# Altium footprint library Passives.PcbLib: 57 footprints (part 3 of 4)
Each footprint in its own frame and in the unit in brackets; x right, y up, seen from the top. Pads: shape width x height; smd on the part's side, far side on the other; paste and mask are expansions set on the pad; w line width, h text height; cw(c..) or ccw(c..) is an arc to the next point about the centre after c.
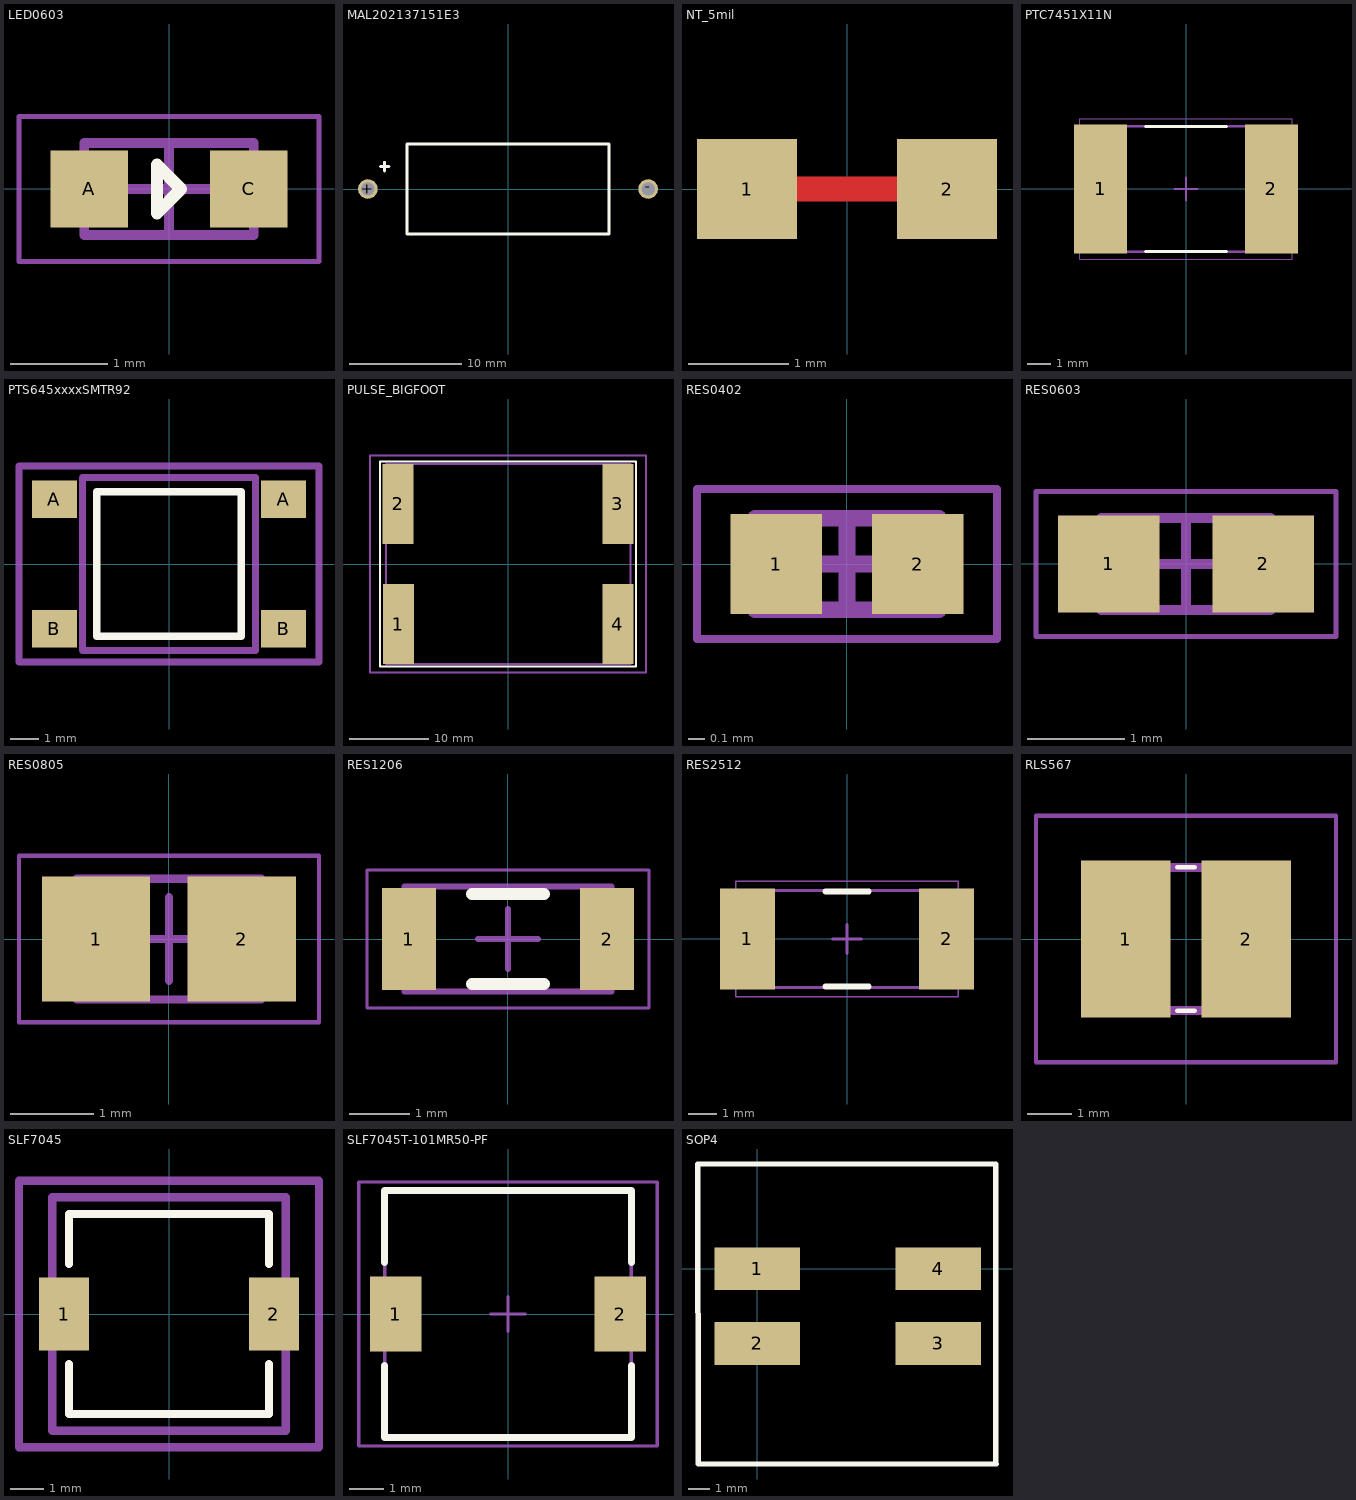
[diagram p2: the footprints below, top view; thin cyan lines are the x and y axes]

## LED0603 [mm] "Chip LED, 2-Leads, Body 1.60x0.80mm, IPC Medium Density"
height 0.8
pads (2):
  rect 0.8x0.8 smd: A(-0.825,0) C(0.825,0)
Top Overlay:
  lines w0.127: -0.125,-0.25 -0.125,0.25 0.125,0 -0.125,-0.25
Mechanical 13:
  lines w0.1: -0.875,-0.475 0.875,-0.475 0.875,0.475 -0.875,0.475 -0.875,-0.475
Mechanical 15:
  lines w0.05: -1.55,-0.75 1.55,-0.75 1.55,0.75 -1.55,0.75 -1.55,-0.75
  lines w0.1: -0.475,0 0.475,0 ; 0,-0.475 0,0.475
3D body: height 0.8, standoff 0, extent 0.525,-0.475 0.875,0.475
3D body: height 0.8, standoff 0, extent -0.875,-0.475 -0.525,0.475
3D body: height 0.75, standoff 0, extent -0.525,-0.475 0.525,0.475

## MAL202137151E3 [mm]
height 8
pads (2):
  round 1.75 hole 1.2: +(-12.5,0) -(12.5,0)
Top Overlay:
  lines w0.254: -11.381,2 -10.619,2 ; -11,1.619 -11,2.381 ; -9,-4 9,-4 9,4 -9,4 -9,-4
3D body: height 8, standoff 0, extent -9,-4 9,4

## MSD1260-153MLB [mm] "Coupled Inductors MSD1260 Low DCR 15 uH 20 % 2.92 A"
height 6

## NT_5mil [mm] "Thin Net Tie"
pads (2):
  rect 1x1 smd paste+0 mask+0: 1(-1,0) 2(1,0)
Top Layer:
  lines w0.254: -1,0 1,0

## PTC7451X11N [mm] "Chip PTC, 2920, 7351 metric 2-Leads, Body 7.36x5.12mm, IPC Medium Density"
height 1.15
pads (2):
  rect 2.3x5.6 smd: 1(-3.7,0) 2(3.7,0)
Top Overlay:
  lines w0.127: -1.75,-2.7 1.75,-2.7 ; -1.75,2.7 1.75,2.7
Mechanical 13:
  lines w0.1: -3.99,-2.72 3.99,-2.72 3.99,2.72 -3.99,2.72 -3.99,-2.72
Mechanical 15:
  lines w0.05: -4.6,-3.05 4.6,-3.05 4.6,3.05 -4.6,3.05 -4.6,-3.05
  lines w0.1: -0.5,0 0.5,0 ; 0,-0.5 0,0.5
3D body: height 1.15, standoff 0, extent 3.14,-2.72 3.99,2.72
3D body: height 1.15, standoff 0, extent -3.99,-2.72 -3.14,2.72
3D body: height 1.15, standoff 0, extent -3.14,-2.72 3.14,2.72

## PTS645xxxxSMTR92 [mm] "PTS645 Series SMT 6 mm Tactile Switch"
height 3.6
pads (4):
  rect 1.555x1.3 smd: A(-3.975,2.25) A(3.975,2.25) B(-3.975,-2.25) B(3.975,-2.25)
Top Overlay:
  lines w0.254: -2.5,-2.5 -2.5,2.5 2.5,2.5 2.5,-2.5 -2.5,-2.5
Mechanical 13:
  lines w0.254: -3,-3 3,-3 3,3 -3,3 -3,-3
Mechanical 15:
  lines w0.254: -5.2,-3.4 -5.2,3.4 5.2,3.4 5.2,-3.4 -5.2,-3.4
3D body: height 4.5, standoff 0, extent -3,-3 3,3

## PULSE_BIGFOOT [mm] "SMT Power Inductor"
pads (4):
  rect 3.94x10.16 smd: 1(-13.93,-7.62) 2(-13.96,7.62) 3(13.93,7.62) 4(13.93,-7.62)
Top Overlay:
  lines w0.254: 16.25,3 16.25,13 ; 16.25,13 16.25,-13 -16.25,-13 -16.25,13 16.25,13
Mechanical 13:
  lines w0.254: 15.495,-12.7 -15.495,-12.7 -15.495,12.7 15.495,12.7 ; 15.495,-12.7 15.495,12.7 ; 15.495,-12.7 15.495,12.7
Mechanical 15:
  lines w0.254: -17.5,-13.75 17.5,-13.75 17.5,13.75 -17.25,13.75 -17.5,13.75 -17.5,-13.75
3D body: height 12.7, standoff 0, extent -15.495,-12.7 15.495,12.7

## RES0402 [mm] "Chip Resistor, 2-Leads, Body 1.00x0.50mm, changed from previous"
height 0.4
pads (2):
  rect 0.55x0.6 smd: 1(-0.425,0) 2(0.425,0)
Mechanical 13:
  lines w0.1: -0.55,-0.275 0.55,-0.275 0.55,0.275 -0.55,0.275 -0.55,-0.275
Mechanical 15:
  lines w0.05: -0.9,-0.45 0.9,-0.45 0.9,0.45 -0.9,0.45 -0.9,-0.45
  lines w0.1: -0.275,0 0.275,0 ; 0,-0.275 0,0.275
3D body: height 0.4, standoff 0, extent 0.3,-0.275 0.55,0.275
3D body: height 0.4, standoff 0, extent -0.55,-0.275 -0.3,0.275
3D body: height 0.4, standoff 0, extent -0.3,-0.275 0.3,0.275

## RES0603 [mm] "Chip Resistor, 2-Leads, Body 1.60x0.80mm, IPC Medium Density"
height 0.8
pads (2):
  rect 1.05x1 smd: 1(-0.8,0) 2(0.8,0)
Mechanical 13:
  lines w0.1: -0.875,-0.475 0.875,-0.475 0.875,0.475 -0.875,0.475 -0.875,-0.475
Mechanical 15:
  lines w0.05: -1.55,-0.75 1.55,-0.75 1.55,0.75 -1.55,0.75 -1.55,-0.75
  lines w0.1: -0.475,0 0.475,0 ; 0,-0.475 0,0.475
3D body: height 0.8, standoff 0, extent 0.525,-0.475 0.875,0.475
3D body: height 0.8, standoff 0, extent -0.875,-0.475 -0.525,0.475
3D body: height 0.8, standoff 0, extent -0.525,-0.475 0.525,0.475

## RES0805 [mm] "Chip Resistor, 2-Leads, Body 2.01x1.25mm, IPC Medium Density"
height 1.8
pads (2):
  rect 1.3x1.5 smd: 1(-0.875,0) 2(0.875,0)
Mechanical 13:
  lines w0.1: -1.105,-0.725 1.105,-0.725 1.105,0.725 -1.105,0.725 -1.105,-0.725
Mechanical 15:
  lines w0.05: -1.8,-1 1.8,-1 1.8,1 -1.8,1 -1.8,-1
  lines w0.1: -0.5,0 0.5,0 ; 0,-0.5 0,0.5
3D body: height 1.8, standoff 0, extent 0.605,-0.725 1.105,0.725
3D body: height 1.8, standoff 0, extent -1.105,-0.725 -0.605,0.725
3D body: height 1.8, standoff 0, extent -0.605,-0.725 0.605,0.725

## RES1206 [mm] "Chip Resistor, 2-Leads, Body 3.20x1.60mm, IPC Medium Density"
height 0.7
pads (2):
  rect 0.9x1.7 smd: 1(-1.65,0) 2(1.65,0)
Top Overlay:
  lines w0.2: -0.6,-0.75 0.6,-0.75 ; -0.6,0.75 0.6,0.75
Mechanical 13:
  lines w0.1: -1.725,-0.875 1.725,-0.875 1.725,0.875 -1.725,0.875 -1.725,-0.875
Mechanical 15:
  lines w0.05: -2.35,-1.15 2.35,-1.15 2.35,1.15 -2.35,1.15 -2.35,-1.15
  lines w0.1: -0.5,0 0.5,0 ; 0,-0.5 0,0.5
3D body: height 0.7, standoff 0, extent 1.375,-0.875 1.725,0.875
3D body: height 0.7, standoff 0, extent -1.725,-0.875 -1.375,0.875
3D body: height 0.7, standoff 0, extent -1.375,-0.875 1.375,0.875

## RES2512 [mm] "Chip Resistor, 2-Leads, Body 6.35x3.20mm, IPC Medium Density"
height 0.65
pads (2):
  rect 1.9x3.5 smd: 1(-3.45,0) 2(3.45,0)
Top Overlay:
  lines w0.2: -0.75,-1.65 0.75,-1.65 ; -0.75,1.65 0.75,1.65
Mechanical 13:
  lines w0.1: -3.225,-1.675 -3.225,1.675 3.225,1.675 3.225,-1.675 -3.225,-1.675
Mechanical 15:
  lines w0.05: -3.85,-2 -3.85,2 3.85,2 3.85,-2 -3.85,-2
  lines w0.1: -0.5,0 0.5,0 ; 0,-0.5 0,0.5
3D body: height 0.65, standoff 0, extent -1.425,-1.675 1.425,1.675
3D body: height 0.65, standoff 0, extent -3.225,-1.675 -1.425,1.675
3D body: height 0.65, standoff 0, extent 1.425,-1.675 3.225,1.675

## RLS567 [mm]
pads (2):
  rect 2x3.5 smd: 1(-1.35,0) 2(1.35,0)
Top Overlay:
  lines w0.1: -0.2,-1.6 0.2,-1.6 ; -0.2,1.6 0.2,1.6
Mechanical 13:
  lines w0.2: -2.25,-1.6 -2.25,1.6 2.25,1.6 2.25,-1.6 -2.25,-1.6
Mechanical 15:
  lines w0.1: -3.35,-2.75 -3.35,2.75 3.35,2.75 3.35,-2.75 -3.35,-2.75
3D body: height 2.6, standoff 0, extent -2.54,-1.905 2.54,1.905
3D body: height 2.6, standoff 0, extent 0,0 0,0
3D body: height 0.25, standoff 0, extent 0,0 0,0
3D body: height 0.25, standoff 0, extent 0,0 0,0

## SLF7045 [mm] "Inductors for Power Circuits Wound Ferrite"
height 4.5
pads (2):
  rect 1.5x2.2 smd: 1(-3.15,0) 2(3.15,0)
Top Overlay:
  lines w0.254: -3,-1.5 -3,-3 3,-3 3,-1.5 ; -3,1.5 -3,3 3,3 3,1.5
Mechanical 13:
  lines w0.254: -3.5,-3.5 -3.5,3.5 3.5,3.5 3.5,-3.5 -3.5,-3.5
Mechanical 15:
  lines w0.254: -4.5,-4 4.5,-4 4.5,4 -4.5,4 -4.5,-4
3D body: height 4.5, standoff 0, extent -3.5,-3.5 3.5,3.5

## SLF7045T-101MR50-PF [mm] "INDUCTOR SHIELD PWR 100UH 7045"
height 4.8
pads (2):
  rect 1.5x2.2 smd: 1(-3.275,0) 2(3.275,0)
Top Overlay:
  lines w0.2: -3.6,-1.5 -3.6,-3.6 3.6,-3.6 3.6,-1.5 ; -3.6,1.5 -3.6,3.6 3.6,3.6 3.6,1.5
Mechanical 13:
  lines w0.1: -3.6,-3.6 -3.6,3.6 3.6,3.6 3.6,-3.6 -3.6,-3.6
Mechanical 15:
  lines w0.1: -0.5,0 0.5,0 ; 0,-0.5 0,0.5 ; -4.35,-3.85 -4.35,3.85 4.35,3.85 4.35,-3.85 -4.35,-3.85
3D body: height 4.8, standoff 0, extent -3.6,-3.6 3.6,3.6

## SOP4 [mm]
pads (4):
  rect 4x2 smd: 1(0,0) 2(0,-3.5) 3(8.5,-3.5) 4(8.5,0)
Top Overlay:
  lines w0.254: -2.776,-9.158 11.224,-9.158 ; -2.776,-9.076 -2.798,4.924 11.202,4.924 11.202,-9.076